# Altium schematic symbol library Res Quad Pack.Schlib: 1 symbol
Pins are listed as number, name and electrical type; pins without a type are passive.

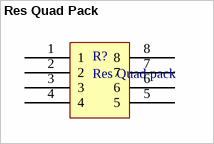
[diagram p0: symbol Res Quad Pack]

## Res Quad Pack
designator R?, comment Res Quad pack
Quad pack resistor
footprint RESCAV80P320X150-8N (Concave terminal quad pack resistor.)
pins: 1, 2, 3, 4, 5, 6, 7, 8